# Altium schematic symbol library mcu_8bit_avr_mega64-128-165-325-645.SchLib: 24 symbols
Pins are listed as number, name and electrical type; pins without a type are passive.

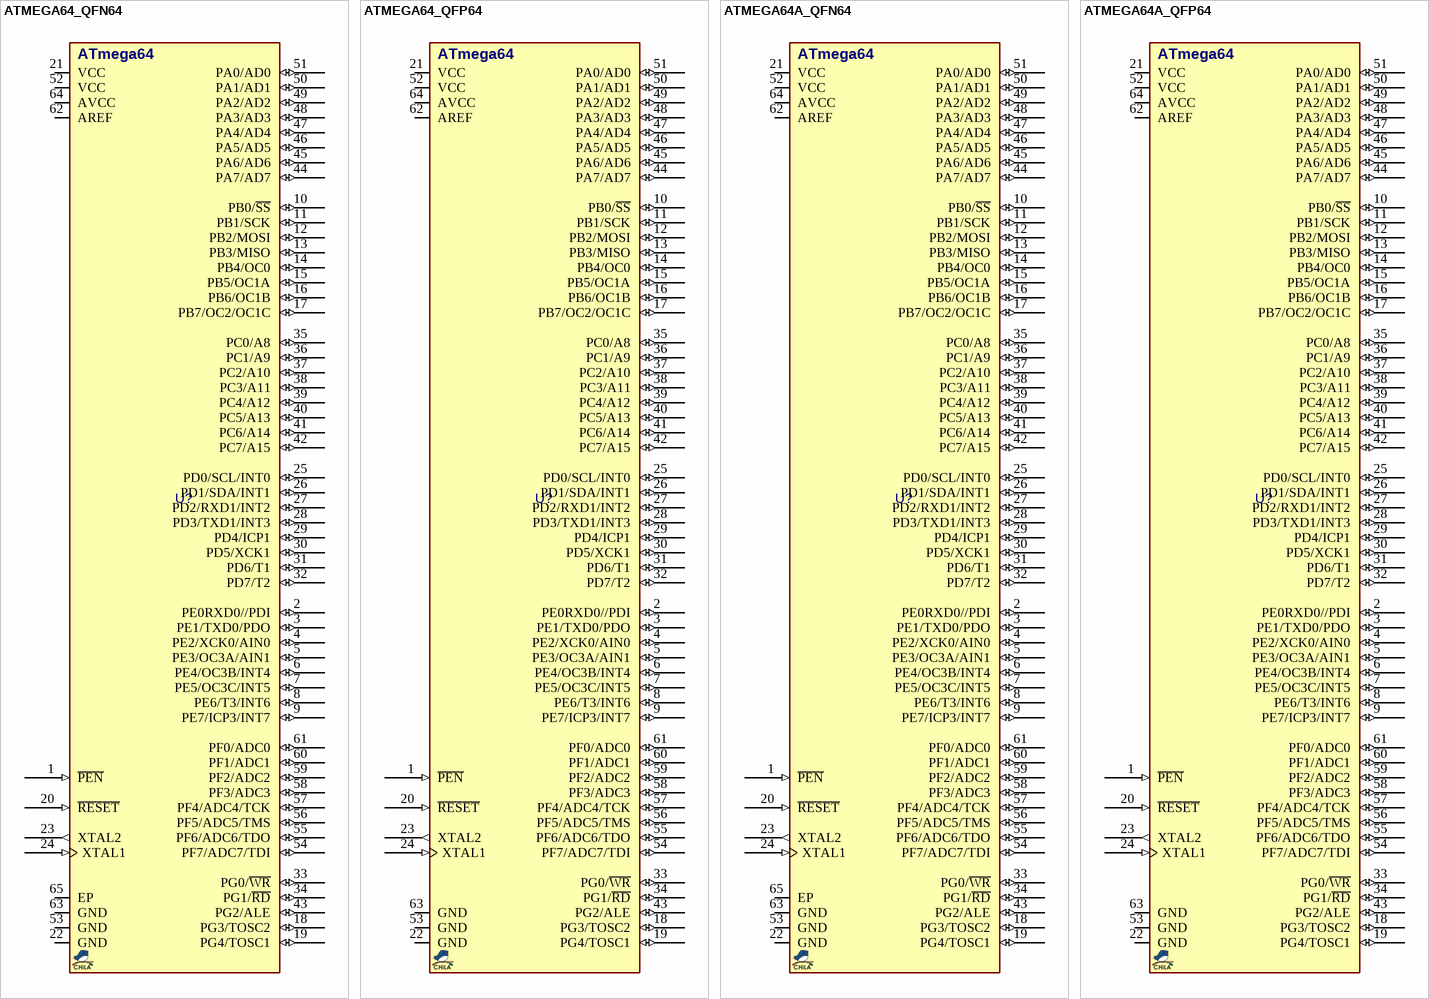
[diagram p0: symbols ATMEGA64_QFN64 to ATMEGA64A_QFP64]

## ATMEGA64_QFN64
designator U?, comment ATMEGA64  (value not drawn)
MCU, AVR, 8-Bit, 64KB, 4KB RAM, 16MHz; MANF_P#: ATMEGA64-16MU; DESC: 2KB EEPROM; MANF: ATMEL/MICROCHIP; PARAM2: 4.5~5.5V; PARAM: 64KB, 4KB RAM, 16MHz, -40~85°C; PRICE: 8$; VALUE: ATMEGA64
footprint QFN50_64T (LFCSP_VQ, MO-220-VMMD-4, MO-220-WNJR-5(JEDEC), RGC S-PQFP-N64 (TI), 9X9mm, 0.5mm)
pins: 1 ~{PEN} (in), 2 PE0RXD0//PDI (io), 3 PE1/TXD0/PDO (io), 4 PE2/XCK0/AIN0 (io), 5 PE3/OC3A/AIN1 (io), 6 PE4/OC3B/INT4 (io), 7 PE5/OC3C/INT5 (io), 8 PE6/T3/INT6 (io), 9 PE7/ICP3/INT7 (io), 10 PB0/~{SS} (io), 11 PB1/SCK (io), 12 PB2/MOSI (io), 13 PB3/MISO (io), 14 PB4/OC0 (io), 15 PB5/OC1A (io), 16 PB6/OC1B (io), 17 PB7/OC2/OC1C (io), 18 PG3/TOSC2 (io), 19 PG4/TOSC1 (io), 20 ~{RESET} (in), 21 VCC (power), 22 GND (power), 23 XTAL2 (out), 24 XTAL1 (in), 25 PD0/SCL/INT0 (io), 26 PD1/SDA/INT1 (io), 27 PD2/RXD1/INT2 (io), 28 PD3/TXD1/INT3 (io), 29 PD4/ICP1 (io), 30 PD5/XCK1 (io), 31 PD6/T1 (io), 32 PD7/T2 (io), 33 PG0/~{WR} (io), 34 PG1/~{RD} (io), 35 PC0/A8 (io), 36 PC1/A9 (io), 37 PC2/A10 (io), 38 PC3/A11 (io), 39 PC4/A12 (io), 40 PC5/A13 (io), 41 PC6/A14 (io), 42 PC7/A15 (io), 43 PG2/ALE (io), 44 PA7/AD7 (io), 45 PA6/AD6 (io), 46 PA5/AD5 (io), 47 PA4/AD4 (io), 48 PA3/AD3 (io), 49 PA2/AD2 (io), 50 PA1/AD1 (io), 51 PA0/AD0 (io), 52 VCC (power), 53 GND (power), 54 PF7/ADC7/TDI (io), 55 PF6/ADC6/TDO (io), 56 PF5/ADC5/TMS (io), 57 PF4/ADC4/TCK (io), 58 PF3/ADC3 (io), 59 PF2/ADC2 (io), 60 PF1/ADC1 (io), 61 PF0/ADC0 (io), 62 AREF (power), 63 GND (power), 64 AVCC (power), 65 EP (power)
text: ATmega64

## ATMEGA64_QFP64
designator U?, comment ATMEGA64  (value not drawn)
MCU, AVR, 8-Bit, 64KB, 4KB RAM, 16MHz; MANF_P#: ATMEGA64-16AU; DESC: 2KB EEPROM; MANF: ATMEL/MICROCHIP; PARAM2: 4.5~5.5V; PARAM: 64KB, 4KB RAM, 16MHz, -40~85°C; PRICE: 8$; VALUE: ATMEGA64
footprint QFG80_64 (TQFP64, N65 (Cypress), , MS-026 AEB(JEDEC), 64A (atmel), 14X14mm, 0.8mm)
pins: 1 ~{PEN} (in), 2 PE0RXD0//PDI (io), 3 PE1/TXD0/PDO (io), 4 PE2/XCK0/AIN0 (io), 5 PE3/OC3A/AIN1 (io), 6 PE4/OC3B/INT4 (io), 7 PE5/OC3C/INT5 (io), 8 PE6/T3/INT6 (io), 9 PE7/ICP3/INT7 (io), 10 PB0/~{SS} (io), 11 PB1/SCK (io), 12 PB2/MOSI (io), 13 PB3/MISO (io), 14 PB4/OC0 (io), 15 PB5/OC1A (io), 16 PB6/OC1B (io), 17 PB7/OC2/OC1C (io), 18 PG3/TOSC2 (io), 19 PG4/TOSC1 (io), 20 ~{RESET} (in), 21 VCC (power), 22 GND (power), 23 XTAL2 (out), 24 XTAL1 (in), 25 PD0/SCL/INT0 (io), 26 PD1/SDA/INT1 (io), 27 PD2/RXD1/INT2 (io), 28 PD3/TXD1/INT3 (io), 29 PD4/ICP1 (io), 30 PD5/XCK1 (io), 31 PD6/T1 (io), 32 PD7/T2 (io), 33 PG0/~{WR} (io), 34 PG1/~{RD} (io), 35 PC0/A8 (io), 36 PC1/A9 (io), 37 PC2/A10 (io), 38 PC3/A11 (io), 39 PC4/A12 (io), 40 PC5/A13 (io), 41 PC6/A14 (io), 42 PC7/A15 (io), 43 PG2/ALE (io), 44 PA7/AD7 (io), 45 PA6/AD6 (io), 46 PA5/AD5 (io), 47 PA4/AD4 (io), 48 PA3/AD3 (io), 49 PA2/AD2 (io), 50 PA1/AD1 (io), 51 PA0/AD0 (io), 52 VCC (power), 53 GND (power), 54 PF7/ADC7/TDI (io), 55 PF6/ADC6/TDO (io), 56 PF5/ADC5/TMS (io), 57 PF4/ADC4/TCK (io), 58 PF3/ADC3 (io), 59 PF2/ADC2 (io), 60 PF1/ADC1 (io), 61 PF0/ADC0 (io), 62 AREF (power), 63 GND (power), 64 AVCC (power)
text: ATmega64

## ATMEGA64A_QFN64
designator U?, comment ATMEGA64  (value not drawn)
MCU, AVR, 8-Bit, 64KB, 4KB RAM, 16MHz; MANF_P#: ATMEGA64A-MU; DESC: 2KB EEPROM; MANF: ATMEL/MICROCHIP; PARAM2: 2.7~5.5V; PARAM: 64KB, 4KB RAM, 16MHz, -40~85°C; PRICE: 4.5$; VALUE: ATMEGA64
footprint QFN50_64T (LFCSP_VQ, MO-220-VMMD-4, MO-220-WNJR-5(JEDEC), RGC S-PQFP-N64 (TI), 9X9mm, 0.5mm)
pins: 1 ~{PEN} (in), 2 PE0RXD0//PDI (io), 3 PE1/TXD0/PDO (io), 4 PE2/XCK0/AIN0 (io), 5 PE3/OC3A/AIN1 (io), 6 PE4/OC3B/INT4 (io), 7 PE5/OC3C/INT5 (io), 8 PE6/T3/INT6 (io), 9 PE7/ICP3/INT7 (io), 10 PB0/~{SS} (io), 11 PB1/SCK (io), 12 PB2/MOSI (io), 13 PB3/MISO (io), 14 PB4/OC0 (io), 15 PB5/OC1A (io), 16 PB6/OC1B (io), 17 PB7/OC2/OC1C (io), 18 PG3/TOSC2 (io), 19 PG4/TOSC1 (io), 20 ~{RESET} (in), 21 VCC (power), 22 GND (power), 23 XTAL2 (out), 24 XTAL1 (in), 25 PD0/SCL/INT0 (io), 26 PD1/SDA/INT1 (io), 27 PD2/RXD1/INT2 (io), 28 PD3/TXD1/INT3 (io), 29 PD4/ICP1 (io), 30 PD5/XCK1 (io), 31 PD6/T1 (io), 32 PD7/T2 (io), 33 PG0/~{WR} (io), 34 PG1/~{RD} (io), 35 PC0/A8 (io), 36 PC1/A9 (io), 37 PC2/A10 (io), 38 PC3/A11 (io), 39 PC4/A12 (io), 40 PC5/A13 (io), 41 PC6/A14 (io), 42 PC7/A15 (io), 43 PG2/ALE (io), 44 PA7/AD7 (io), 45 PA6/AD6 (io), 46 PA5/AD5 (io), 47 PA4/AD4 (io), 48 PA3/AD3 (io), 49 PA2/AD2 (io), 50 PA1/AD1 (io), 51 PA0/AD0 (io), 52 VCC (power), 53 GND (power), 54 PF7/ADC7/TDI (io), 55 PF6/ADC6/TDO (io), 56 PF5/ADC5/TMS (io), 57 PF4/ADC4/TCK (io), 58 PF3/ADC3 (io), 59 PF2/ADC2 (io), 60 PF1/ADC1 (io), 61 PF0/ADC0 (io), 62 AREF (power), 63 GND (power), 64 AVCC (power), 65 EP (power)
text: ATmega64

## ATMEGA64A_QFP64
designator U?, comment ATMEGA64  (value not drawn)
MCU, AVR, 8-Bit, 64KB, 4KB RAM, 16MHz; MANF_P#: ATMEGA64A-AU; DESC: 2KB EEPROM; MANF: ATMEL/MICROCHIP; PARAM2: 2.7~5.5V; PARAM: 64KB, 4KB RAM, 16MHz, -40~85°C; PRICE: 4.5$; VALUE: ATMEGA64
footprint QFG80_64 (TQFP64, N65 (Cypress), , MS-026 AEB(JEDEC), 64A (atmel), 14X14mm, 0.8mm)
pins: 1 ~{PEN} (in), 2 PE0RXD0//PDI (io), 3 PE1/TXD0/PDO (io), 4 PE2/XCK0/AIN0 (io), 5 PE3/OC3A/AIN1 (io), 6 PE4/OC3B/INT4 (io), 7 PE5/OC3C/INT5 (io), 8 PE6/T3/INT6 (io), 9 PE7/ICP3/INT7 (io), 10 PB0/~{SS} (io), 11 PB1/SCK (io), 12 PB2/MOSI (io), 13 PB3/MISO (io), 14 PB4/OC0 (io), 15 PB5/OC1A (io), 16 PB6/OC1B (io), 17 PB7/OC2/OC1C (io), 18 PG3/TOSC2 (io), 19 PG4/TOSC1 (io), 20 ~{RESET} (in), 21 VCC (power), 22 GND (power), 23 XTAL2 (out), 24 XTAL1 (in), 25 PD0/SCL/INT0 (io), 26 PD1/SDA/INT1 (io), 27 PD2/RXD1/INT2 (io), 28 PD3/TXD1/INT3 (io), 29 PD4/ICP1 (io), 30 PD5/XCK1 (io), 31 PD6/T1 (io), 32 PD7/T2 (io), 33 PG0/~{WR} (io), 34 PG1/~{RD} (io), 35 PC0/A8 (io), 36 PC1/A9 (io), 37 PC2/A10 (io), 38 PC3/A11 (io), 39 PC4/A12 (io), 40 PC5/A13 (io), 41 PC6/A14 (io), 42 PC7/A15 (io), 43 PG2/ALE (io), 44 PA7/AD7 (io), 45 PA6/AD6 (io), 46 PA5/AD5 (io), 47 PA4/AD4 (io), 48 PA3/AD3 (io), 49 PA2/AD2 (io), 50 PA1/AD1 (io), 51 PA0/AD0 (io), 52 VCC (power), 53 GND (power), 54 PF7/ADC7/TDI (io), 55 PF6/ADC6/TDO (io), 56 PF5/ADC5/TMS (io), 57 PF4/ADC4/TCK (io), 58 PF3/ADC3 (io), 59 PF2/ADC2 (io), 60 PF1/ADC1 (io), 61 PF0/ADC0 (io), 62 AREF (power), 63 GND (power), 64 AVCC (power)
text: ATmega64

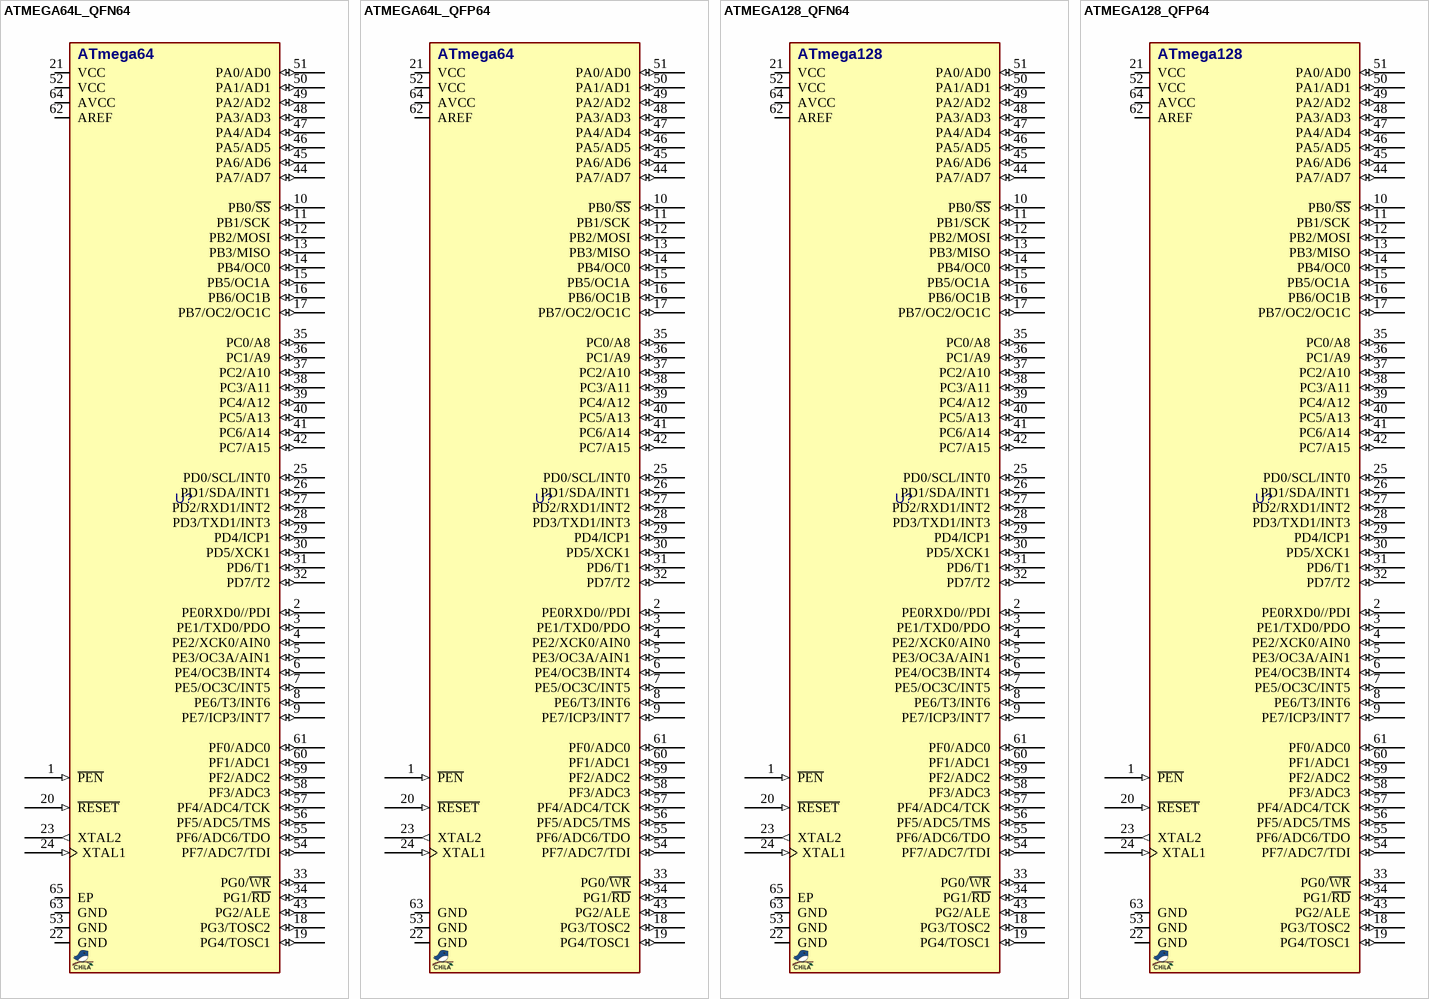
[diagram p1: symbols ATMEGA64L_QFN64 to ATMEGA128_QFP64]

## ATMEGA64L_QFN64
designator U?, comment ATMEGA64  (value not drawn)
MCU, AVR, 8-Bit, 64KB, 4KB RAM, 8MHz; MANF_P#: ATMEGA64L-8MU; DESC: 2KB EEPROM; MANF: ATMEL/MICROCHIP; PARAM2: 2.7~5.5V; PARAM: 64KB, 4KB RAM, 8MHz, -40~85°C; PRICE: 8$; VALUE: ATMEGA64
footprint QFN50_64T (LFCSP_VQ, MO-220-VMMD-4, MO-220-WNJR-5(JEDEC), RGC S-PQFP-N64 (TI), 9X9mm, 0.5mm)
pins: 1 ~{PEN} (in), 2 PE0RXD0//PDI (io), 3 PE1/TXD0/PDO (io), 4 PE2/XCK0/AIN0 (io), 5 PE3/OC3A/AIN1 (io), 6 PE4/OC3B/INT4 (io), 7 PE5/OC3C/INT5 (io), 8 PE6/T3/INT6 (io), 9 PE7/ICP3/INT7 (io), 10 PB0/~{SS} (io), 11 PB1/SCK (io), 12 PB2/MOSI (io), 13 PB3/MISO (io), 14 PB4/OC0 (io), 15 PB5/OC1A (io), 16 PB6/OC1B (io), 17 PB7/OC2/OC1C (io), 18 PG3/TOSC2 (io), 19 PG4/TOSC1 (io), 20 ~{RESET} (in), 21 VCC (power), 22 GND (power), 23 XTAL2 (out), 24 XTAL1 (in), 25 PD0/SCL/INT0 (io), 26 PD1/SDA/INT1 (io), 27 PD2/RXD1/INT2 (io), 28 PD3/TXD1/INT3 (io), 29 PD4/ICP1 (io), 30 PD5/XCK1 (io), 31 PD6/T1 (io), 32 PD7/T2 (io), 33 PG0/~{WR} (io), 34 PG1/~{RD} (io), 35 PC0/A8 (io), 36 PC1/A9 (io), 37 PC2/A10 (io), 38 PC3/A11 (io), 39 PC4/A12 (io), 40 PC5/A13 (io), 41 PC6/A14 (io), 42 PC7/A15 (io), 43 PG2/ALE (io), 44 PA7/AD7 (io), 45 PA6/AD6 (io), 46 PA5/AD5 (io), 47 PA4/AD4 (io), 48 PA3/AD3 (io), 49 PA2/AD2 (io), 50 PA1/AD1 (io), 51 PA0/AD0 (io), 52 VCC (power), 53 GND (power), 54 PF7/ADC7/TDI (io), 55 PF6/ADC6/TDO (io), 56 PF5/ADC5/TMS (io), 57 PF4/ADC4/TCK (io), 58 PF3/ADC3 (io), 59 PF2/ADC2 (io), 60 PF1/ADC1 (io), 61 PF0/ADC0 (io), 62 AREF (power), 63 GND (power), 64 AVCC (power), 65 EP (power)
text: ATmega64

## ATMEGA64L_QFP64
designator U?, comment ATMEGA64  (value not drawn)
MCU, AVR, 8-Bit, 64KB, 4KB RAM, 8MHz; MANF_P#: ATMEGA64L-8AU; DESC: 2KB EEPROM; MANF: ATMEL/MICROCHIP; PARAM2: 2.7~5.5V; PARAM: 64KB, 4KB RAM, 8MHz, -40~85°C; PRICE: 8$; VALUE: ATMEGA64
footprint QFG80_64 (TQFP64, N65 (Cypress), , MS-026 AEB(JEDEC), 64A (atmel), 14X14mm, 0.8mm)
pins: 1 ~{PEN} (in), 2 PE0RXD0//PDI (io), 3 PE1/TXD0/PDO (io), 4 PE2/XCK0/AIN0 (io), 5 PE3/OC3A/AIN1 (io), 6 PE4/OC3B/INT4 (io), 7 PE5/OC3C/INT5 (io), 8 PE6/T3/INT6 (io), 9 PE7/ICP3/INT7 (io), 10 PB0/~{SS} (io), 11 PB1/SCK (io), 12 PB2/MOSI (io), 13 PB3/MISO (io), 14 PB4/OC0 (io), 15 PB5/OC1A (io), 16 PB6/OC1B (io), 17 PB7/OC2/OC1C (io), 18 PG3/TOSC2 (io), 19 PG4/TOSC1 (io), 20 ~{RESET} (in), 21 VCC (power), 22 GND (power), 23 XTAL2 (out), 24 XTAL1 (in), 25 PD0/SCL/INT0 (io), 26 PD1/SDA/INT1 (io), 27 PD2/RXD1/INT2 (io), 28 PD3/TXD1/INT3 (io), 29 PD4/ICP1 (io), 30 PD5/XCK1 (io), 31 PD6/T1 (io), 32 PD7/T2 (io), 33 PG0/~{WR} (io), 34 PG1/~{RD} (io), 35 PC0/A8 (io), 36 PC1/A9 (io), 37 PC2/A10 (io), 38 PC3/A11 (io), 39 PC4/A12 (io), 40 PC5/A13 (io), 41 PC6/A14 (io), 42 PC7/A15 (io), 43 PG2/ALE (io), 44 PA7/AD7 (io), 45 PA6/AD6 (io), 46 PA5/AD5 (io), 47 PA4/AD4 (io), 48 PA3/AD3 (io), 49 PA2/AD2 (io), 50 PA1/AD1 (io), 51 PA0/AD0 (io), 52 VCC (power), 53 GND (power), 54 PF7/ADC7/TDI (io), 55 PF6/ADC6/TDO (io), 56 PF5/ADC5/TMS (io), 57 PF4/ADC4/TCK (io), 58 PF3/ADC3 (io), 59 PF2/ADC2 (io), 60 PF1/ADC1 (io), 61 PF0/ADC0 (io), 62 AREF (power), 63 GND (power), 64 AVCC (power)
text: ATmega64

## ATMEGA128_QFN64
designator U?, comment ATMEGA128  (value not drawn)
MCU, AVR, 8-Bit, 128KB, 4KB RAM, 16MHz; MANF_P#: ATMEGA128-16MU; DESC: 2KB EEPROM; MANF: ATMEL/MICROCHIP; PARAM2: 4.5~5.5V; PARAM: 128KB, 4KB RAM, 16MHz, -40~85°C; PRICE: 12$; VALUE: ATMEGA128
footprint QFN50_64T (LFCSP_VQ, MO-220-VMMD-4, MO-220-WNJR-5(JEDEC), RGC S-PQFP-N64 (TI), 9X9mm, 0.5mm)
pins: 1 ~{PEN} (in), 2 PE0RXD0//PDI (io), 3 PE1/TXD0/PDO (io), 4 PE2/XCK0/AIN0 (io), 5 PE3/OC3A/AIN1 (io), 6 PE4/OC3B/INT4 (io), 7 PE5/OC3C/INT5 (io), 8 PE6/T3/INT6 (io), 9 PE7/ICP3/INT7 (io), 10 PB0/~{SS} (io), 11 PB1/SCK (io), 12 PB2/MOSI (io), 13 PB3/MISO (io), 14 PB4/OC0 (io), 15 PB5/OC1A (io), 16 PB6/OC1B (io), 17 PB7/OC2/OC1C (io), 18 PG3/TOSC2 (io), 19 PG4/TOSC1 (io), 20 ~{RESET} (in), 21 VCC (power), 22 GND (power), 23 XTAL2 (out), 24 XTAL1 (in), 25 PD0/SCL/INT0 (io), 26 PD1/SDA/INT1 (io), 27 PD2/RXD1/INT2 (io), 28 PD3/TXD1/INT3 (io), 29 PD4/ICP1 (io), 30 PD5/XCK1 (io), 31 PD6/T1 (io), 32 PD7/T2 (io), 33 PG0/~{WR} (io), 34 PG1/~{RD} (io), 35 PC0/A8 (io), 36 PC1/A9 (io), 37 PC2/A10 (io), 38 PC3/A11 (io), 39 PC4/A12 (io), 40 PC5/A13 (io), 41 PC6/A14 (io), 42 PC7/A15 (io), 43 PG2/ALE (io), 44 PA7/AD7 (io), 45 PA6/AD6 (io), 46 PA5/AD5 (io), 47 PA4/AD4 (io), 48 PA3/AD3 (io), 49 PA2/AD2 (io), 50 PA1/AD1 (io), 51 PA0/AD0 (io), 52 VCC (power), 53 GND (power), 54 PF7/ADC7/TDI (io), 55 PF6/ADC6/TDO (io), 56 PF5/ADC5/TMS (io), 57 PF4/ADC4/TCK (io), 58 PF3/ADC3 (io), 59 PF2/ADC2 (io), 60 PF1/ADC1 (io), 61 PF0/ADC0 (io), 62 AREF (power), 63 GND (power), 64 AVCC (power), 65 EP (power)
text: ATmega128

## ATMEGA128_QFP64
designator U?, comment ATMEGA128  (value not drawn)
MCU, AVR, 8-Bit, 128KB, 4KB RAM, 16MHz; MANF_P#: ATMEGA128-16AU; DESC: 2KB EEPROM; MANF: ATMEL/MICROCHIP; PARAM2: 4.5~5.5V; PARAM: 64KB, 4KB RAM, 16MHz, -40~85°C; PRICE: 12$; VALUE: ATMEGA128
footprint QFG80_64 (TQFP64, N65 (Cypress), , MS-026 AEB(JEDEC), 64A (atmel), 14X14mm, 0.8mm)
pins: 1 ~{PEN} (in), 2 PE0RXD0//PDI (io), 3 PE1/TXD0/PDO (io), 4 PE2/XCK0/AIN0 (io), 5 PE3/OC3A/AIN1 (io), 6 PE4/OC3B/INT4 (io), 7 PE5/OC3C/INT5 (io), 8 PE6/T3/INT6 (io), 9 PE7/ICP3/INT7 (io), 10 PB0/~{SS} (io), 11 PB1/SCK (io), 12 PB2/MOSI (io), 13 PB3/MISO (io), 14 PB4/OC0 (io), 15 PB5/OC1A (io), 16 PB6/OC1B (io), 17 PB7/OC2/OC1C (io), 18 PG3/TOSC2 (io), 19 PG4/TOSC1 (io), 20 ~{RESET} (in), 21 VCC (power), 22 GND (power), 23 XTAL2 (out), 24 XTAL1 (in), 25 PD0/SCL/INT0 (io), 26 PD1/SDA/INT1 (io), 27 PD2/RXD1/INT2 (io), 28 PD3/TXD1/INT3 (io), 29 PD4/ICP1 (io), 30 PD5/XCK1 (io), 31 PD6/T1 (io), 32 PD7/T2 (io), 33 PG0/~{WR} (io), 34 PG1/~{RD} (io), 35 PC0/A8 (io), 36 PC1/A9 (io), 37 PC2/A10 (io), 38 PC3/A11 (io), 39 PC4/A12 (io), 40 PC5/A13 (io), 41 PC6/A14 (io), 42 PC7/A15 (io), 43 PG2/ALE (io), 44 PA7/AD7 (io), 45 PA6/AD6 (io), 46 PA5/AD5 (io), 47 PA4/AD4 (io), 48 PA3/AD3 (io), 49 PA2/AD2 (io), 50 PA1/AD1 (io), 51 PA0/AD0 (io), 52 VCC (power), 53 GND (power), 54 PF7/ADC7/TDI (io), 55 PF6/ADC6/TDO (io), 56 PF5/ADC5/TMS (io), 57 PF4/ADC4/TCK (io), 58 PF3/ADC3 (io), 59 PF2/ADC2 (io), 60 PF1/ADC1 (io), 61 PF0/ADC0 (io), 62 AREF (power), 63 GND (power), 64 AVCC (power)
text: ATmega128

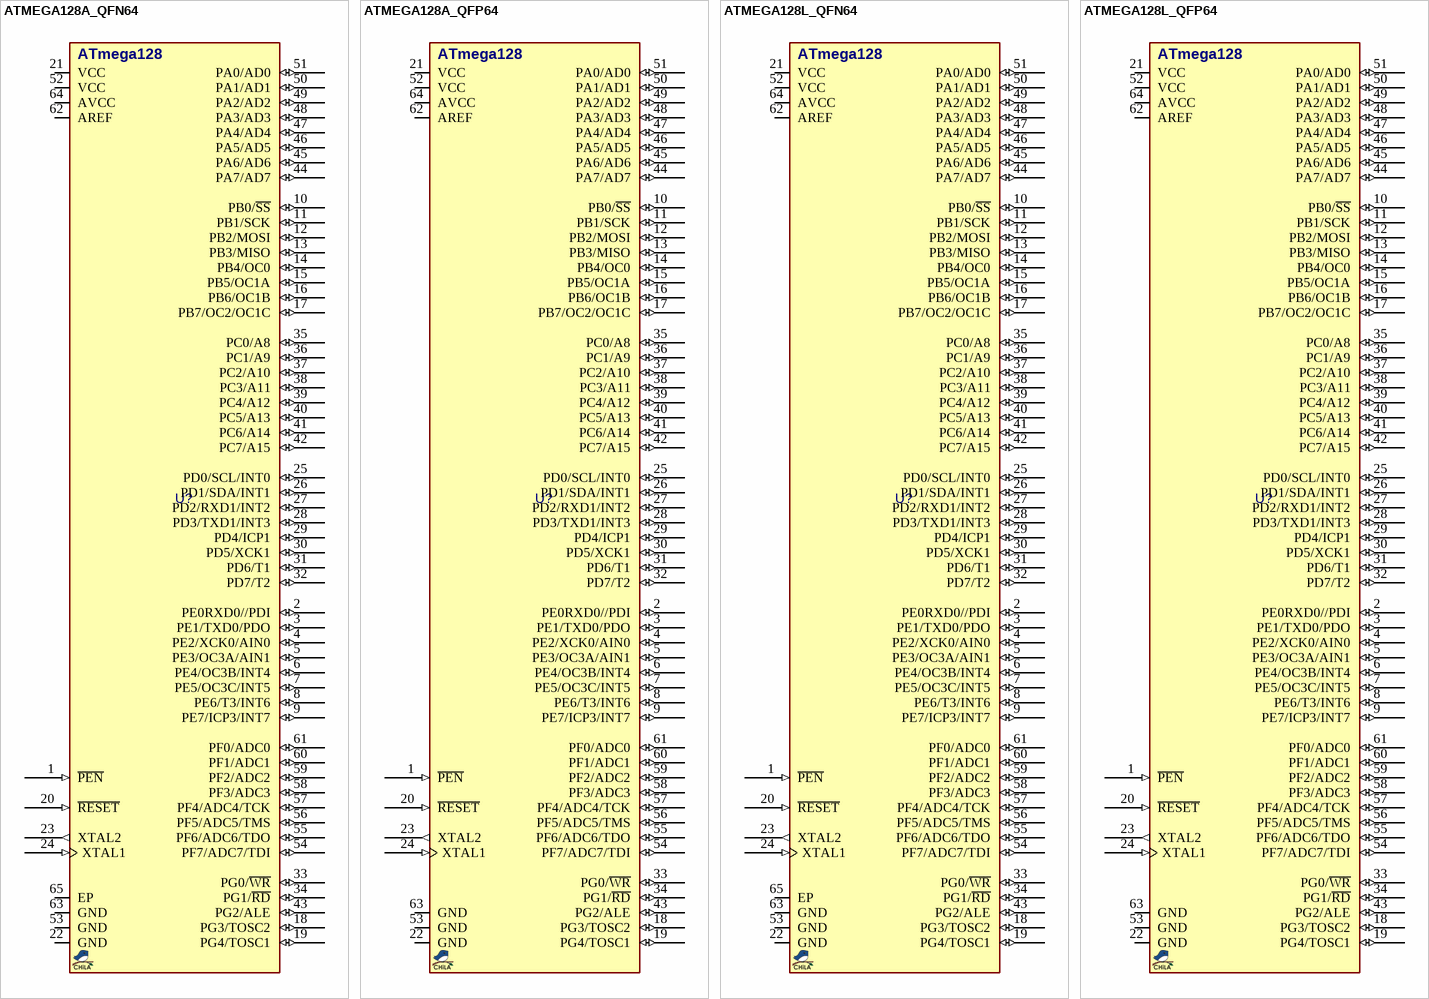
[diagram p2: symbols ATMEGA128A_QFN64 to ATMEGA128L_QFP64]

## ATMEGA128A_QFN64
designator U?, comment ATMEGA128  (value not drawn)
MCU, AVR, 8-Bit, 128KB, 4KB RAM, 16MHz; MANF_P#: ATMEGA128A-MU; DESC: 2KB EEPROM; MANF: ATMEL/MICROCHIP; PARAM2: 2.7~5.5V; PARAM: 128KB, 4KB RAM, 16MHz, -40~85°C; PRICE: 5.5$; VALUE: ATMEGA128
footprint QFN50_64T (LFCSP_VQ, MO-220-VMMD-4, MO-220-WNJR-5(JEDEC), RGC S-PQFP-N64 (TI), 9X9mm, 0.5mm)
pins: 1 ~{PEN} (in), 2 PE0RXD0//PDI (io), 3 PE1/TXD0/PDO (io), 4 PE2/XCK0/AIN0 (io), 5 PE3/OC3A/AIN1 (io), 6 PE4/OC3B/INT4 (io), 7 PE5/OC3C/INT5 (io), 8 PE6/T3/INT6 (io), 9 PE7/ICP3/INT7 (io), 10 PB0/~{SS} (io), 11 PB1/SCK (io), 12 PB2/MOSI (io), 13 PB3/MISO (io), 14 PB4/OC0 (io), 15 PB5/OC1A (io), 16 PB6/OC1B (io), 17 PB7/OC2/OC1C (io), 18 PG3/TOSC2 (io), 19 PG4/TOSC1 (io), 20 ~{RESET} (in), 21 VCC (power), 22 GND (power), 23 XTAL2 (out), 24 XTAL1 (in), 25 PD0/SCL/INT0 (io), 26 PD1/SDA/INT1 (io), 27 PD2/RXD1/INT2 (io), 28 PD3/TXD1/INT3 (io), 29 PD4/ICP1 (io), 30 PD5/XCK1 (io), 31 PD6/T1 (io), 32 PD7/T2 (io), 33 PG0/~{WR} (io), 34 PG1/~{RD} (io), 35 PC0/A8 (io), 36 PC1/A9 (io), 37 PC2/A10 (io), 38 PC3/A11 (io), 39 PC4/A12 (io), 40 PC5/A13 (io), 41 PC6/A14 (io), 42 PC7/A15 (io), 43 PG2/ALE (io), 44 PA7/AD7 (io), 45 PA6/AD6 (io), 46 PA5/AD5 (io), 47 PA4/AD4 (io), 48 PA3/AD3 (io), 49 PA2/AD2 (io), 50 PA1/AD1 (io), 51 PA0/AD0 (io), 52 VCC (power), 53 GND (power), 54 PF7/ADC7/TDI (io), 55 PF6/ADC6/TDO (io), 56 PF5/ADC5/TMS (io), 57 PF4/ADC4/TCK (io), 58 PF3/ADC3 (io), 59 PF2/ADC2 (io), 60 PF1/ADC1 (io), 61 PF0/ADC0 (io), 62 AREF (power), 63 GND (power), 64 AVCC (power), 65 EP (power)
text: ATmega128

## ATMEGA128A_QFP64
designator U?, comment ATMEGA128  (value not drawn)
MCU, AVR, 8-Bit, 128KB, 4KB RAM, 16MHz; MANF_P#: ATMEGA128A-AU; DESC: 2KB EEPROM; MANF: ATMEL/MICROCHIP; PARAM2: 2.7~5.5V; PARAM: 64KB, 4KB RAM, 16MHz, -40~85°C; PRICE: 5.5$; VALUE: ATMEGA128
footprint QFG80_64 (TQFP64, N65 (Cypress), , MS-026 AEB(JEDEC), 64A (atmel), 14X14mm, 0.8mm)
pins: 1 ~{PEN} (in), 2 PE0RXD0//PDI (io), 3 PE1/TXD0/PDO (io), 4 PE2/XCK0/AIN0 (io), 5 PE3/OC3A/AIN1 (io), 6 PE4/OC3B/INT4 (io), 7 PE5/OC3C/INT5 (io), 8 PE6/T3/INT6 (io), 9 PE7/ICP3/INT7 (io), 10 PB0/~{SS} (io), 11 PB1/SCK (io), 12 PB2/MOSI (io), 13 PB3/MISO (io), 14 PB4/OC0 (io), 15 PB5/OC1A (io), 16 PB6/OC1B (io), 17 PB7/OC2/OC1C (io), 18 PG3/TOSC2 (io), 19 PG4/TOSC1 (io), 20 ~{RESET} (in), 21 VCC (power), 22 GND (power), 23 XTAL2 (out), 24 XTAL1 (in), 25 PD0/SCL/INT0 (io), 26 PD1/SDA/INT1 (io), 27 PD2/RXD1/INT2 (io), 28 PD3/TXD1/INT3 (io), 29 PD4/ICP1 (io), 30 PD5/XCK1 (io), 31 PD6/T1 (io), 32 PD7/T2 (io), 33 PG0/~{WR} (io), 34 PG1/~{RD} (io), 35 PC0/A8 (io), 36 PC1/A9 (io), 37 PC2/A10 (io), 38 PC3/A11 (io), 39 PC4/A12 (io), 40 PC5/A13 (io), 41 PC6/A14 (io), 42 PC7/A15 (io), 43 PG2/ALE (io), 44 PA7/AD7 (io), 45 PA6/AD6 (io), 46 PA5/AD5 (io), 47 PA4/AD4 (io), 48 PA3/AD3 (io), 49 PA2/AD2 (io), 50 PA1/AD1 (io), 51 PA0/AD0 (io), 52 VCC (power), 53 GND (power), 54 PF7/ADC7/TDI (io), 55 PF6/ADC6/TDO (io), 56 PF5/ADC5/TMS (io), 57 PF4/ADC4/TCK (io), 58 PF3/ADC3 (io), 59 PF2/ADC2 (io), 60 PF1/ADC1 (io), 61 PF0/ADC0 (io), 62 AREF (power), 63 GND (power), 64 AVCC (power)
text: ATmega128

## ATMEGA128L_QFN64
designator U?, comment ATMEGA128  (value not drawn)
MCU, AVR, 8-Bit, 128KB, 4KB RAM, 8MHz; MANF_P#: ATMEGA128L-8MU; DESC: 2KB EEPROM; MANF: ATMEL/MICROCHIP; PARAM2: 2.7~5.5V; PARAM: 128KB, 4KB RAM, 8MHz, -40~85°C; PRICE: 12$; VALUE: ATMEGA128
footprint QFN50_64T (LFCSP_VQ, MO-220-VMMD-4, MO-220-WNJR-5(JEDEC), RGC S-PQFP-N64 (TI), 9X9mm, 0.5mm)
pins: 1 ~{PEN} (in), 2 PE0RXD0//PDI (io), 3 PE1/TXD0/PDO (io), 4 PE2/XCK0/AIN0 (io), 5 PE3/OC3A/AIN1 (io), 6 PE4/OC3B/INT4 (io), 7 PE5/OC3C/INT5 (io), 8 PE6/T3/INT6 (io), 9 PE7/ICP3/INT7 (io), 10 PB0/~{SS} (io), 11 PB1/SCK (io), 12 PB2/MOSI (io), 13 PB3/MISO (io), 14 PB4/OC0 (io), 15 PB5/OC1A (io), 16 PB6/OC1B (io), 17 PB7/OC2/OC1C (io), 18 PG3/TOSC2 (io), 19 PG4/TOSC1 (io), 20 ~{RESET} (in), 21 VCC (power), 22 GND (power), 23 XTAL2 (out), 24 XTAL1 (in), 25 PD0/SCL/INT0 (io), 26 PD1/SDA/INT1 (io), 27 PD2/RXD1/INT2 (io), 28 PD3/TXD1/INT3 (io), 29 PD4/ICP1 (io), 30 PD5/XCK1 (io), 31 PD6/T1 (io), 32 PD7/T2 (io), 33 PG0/~{WR} (io), 34 PG1/~{RD} (io), 35 PC0/A8 (io), 36 PC1/A9 (io), 37 PC2/A10 (io), 38 PC3/A11 (io), 39 PC4/A12 (io), 40 PC5/A13 (io), 41 PC6/A14 (io), 42 PC7/A15 (io), 43 PG2/ALE (io), 44 PA7/AD7 (io), 45 PA6/AD6 (io), 46 PA5/AD5 (io), 47 PA4/AD4 (io), 48 PA3/AD3 (io), 49 PA2/AD2 (io), 50 PA1/AD1 (io), 51 PA0/AD0 (io), 52 VCC (power), 53 GND (power), 54 PF7/ADC7/TDI (io), 55 PF6/ADC6/TDO (io), 56 PF5/ADC5/TMS (io), 57 PF4/ADC4/TCK (io), 58 PF3/ADC3 (io), 59 PF2/ADC2 (io), 60 PF1/ADC1 (io), 61 PF0/ADC0 (io), 62 AREF (power), 63 GND (power), 64 AVCC (power), 65 EP (power)
text: ATmega128

## ATMEGA128L_QFP64
designator U?, comment ATMEGA128  (value not drawn)
MCU, AVR, 8-Bit, 128KB, 4KB RAM, 8MHz; MANF_P#: ATMEGA128L-8AU; DESC: 2KB EEPROM; MANF: ATMEL/MICROCHIP; PARAM2: 2.7~5.5V; PARAM: 128KB, 4KB RAM, 8MHz, -40~85°C; PRICE: 12$; VALUE: ATMEGA128
footprint QFG80_64 (TQFP64, N65 (Cypress), , MS-026 AEB(JEDEC), 64A (atmel), 14X14mm, 0.8mm)
pins: 1 ~{PEN} (in), 2 PE0RXD0//PDI (io), 3 PE1/TXD0/PDO (io), 4 PE2/XCK0/AIN0 (io), 5 PE3/OC3A/AIN1 (io), 6 PE4/OC3B/INT4 (io), 7 PE5/OC3C/INT5 (io), 8 PE6/T3/INT6 (io), 9 PE7/ICP3/INT7 (io), 10 PB0/~{SS} (io), 11 PB1/SCK (io), 12 PB2/MOSI (io), 13 PB3/MISO (io), 14 PB4/OC0 (io), 15 PB5/OC1A (io), 16 PB6/OC1B (io), 17 PB7/OC2/OC1C (io), 18 PG3/TOSC2 (io), 19 PG4/TOSC1 (io), 20 ~{RESET} (in), 21 VCC (power), 22 GND (power), 23 XTAL2 (out), 24 XTAL1 (in), 25 PD0/SCL/INT0 (io), 26 PD1/SDA/INT1 (io), 27 PD2/RXD1/INT2 (io), 28 PD3/TXD1/INT3 (io), 29 PD4/ICP1 (io), 30 PD5/XCK1 (io), 31 PD6/T1 (io), 32 PD7/T2 (io), 33 PG0/~{WR} (io), 34 PG1/~{RD} (io), 35 PC0/A8 (io), 36 PC1/A9 (io), 37 PC2/A10 (io), 38 PC3/A11 (io), 39 PC4/A12 (io), 40 PC5/A13 (io), 41 PC6/A14 (io), 42 PC7/A15 (io), 43 PG2/ALE (io), 44 PA7/AD7 (io), 45 PA6/AD6 (io), 46 PA5/AD5 (io), 47 PA4/AD4 (io), 48 PA3/AD3 (io), 49 PA2/AD2 (io), 50 PA1/AD1 (io), 51 PA0/AD0 (io), 52 VCC (power), 53 GND (power), 54 PF7/ADC7/TDI (io), 55 PF6/ADC6/TDO (io), 56 PF5/ADC5/TMS (io), 57 PF4/ADC4/TCK (io), 58 PF3/ADC3 (io), 59 PF2/ADC2 (io), 60 PF1/ADC1 (io), 61 PF0/ADC0 (io), 62 AREF (power), 63 GND (power), 64 AVCC (power)
text: ATmega128

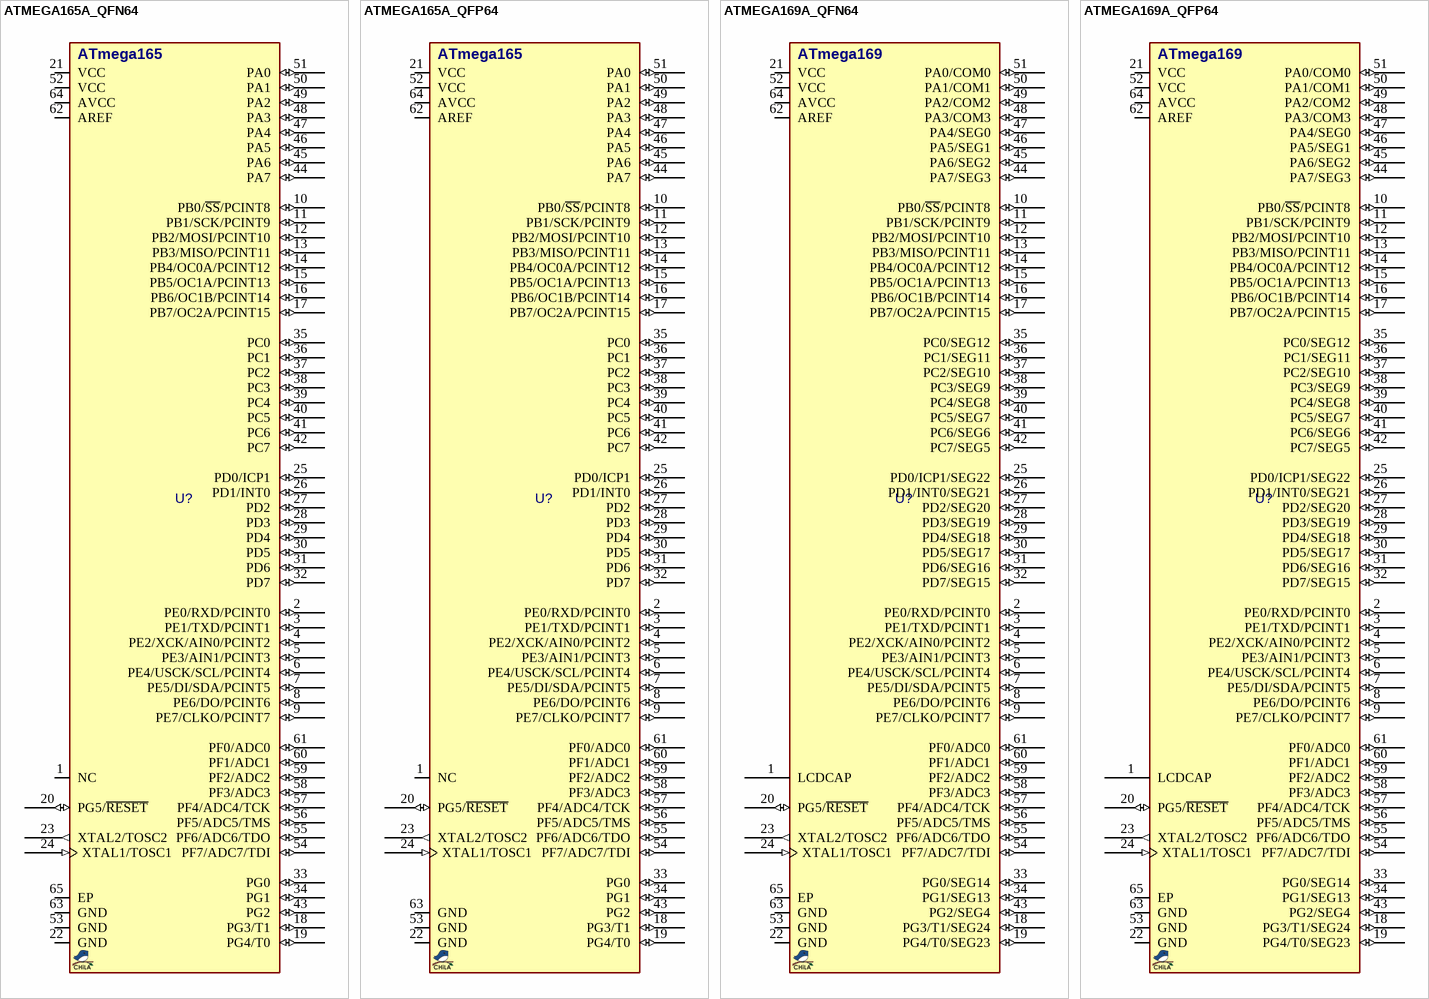
[diagram p3: symbols ATMEGA165A_QFN64 to ATMEGA169A_QFP64]

## ATMEGA165A_QFN64
designator U?, comment ATMEGA165  (value not drawn)
MCU, AVR, 8-Bit, 16KB, 1KB RAM, 20MHz; MANF_P#: ATMEGA165A-MU; DESC: 512B EEPROM; MANF: ATMEL/MICROCHIP; PARAM2: 1.8~5.5V; PARAM: 16KB, 1KB RAM, 20MHz, -40~85°C; PRICE: 3$; VALUE: ATMEGA165
footprint QFN50_64T (LFCSP_VQ, MO-220-VMMD-4, MO-220-WNJR-5(JEDEC), RGC S-PQFP-N64 (TI), 9X9mm, 0.5mm)
pins: 1 NC, 2 PE0/RXD/PCINT0 (io), 3 PE1/TXD/PCINT1 (io), 4 PE2/XCK/AIN0/PCINT2 (io), 5 PE3/AIN1/PCINT3 (io), 6 PE4/USCK/SCL/PCINT4 (io), 7 PE5/DI/SDA/PCINT5 (io), 8 PE6/DO/PCINT6 (io), 9 PE7/CLKO/PCINT7 (io), 10 PB0/~{SS}/PCINT8 (io), 11 PB1/SCK/PCINT9 (io), 12 PB2/MOSI/PCINT10 (io), 13 PB3/MISO/PCINT11 (io), 14 PB4/OC0A/PCINT12 (io), 15 PB5/OC1A/PCINT13 (io), 16 PB6/OC1B/PCINT14 (io), 17 PB7/OC2A/PCINT15 (io), 18 PG3/T1 (io), 19 PG4/T0 (io), 20 PG5/~{RESET} (io), 21 VCC (power), 22 GND (power), 23 XTAL2/TOSC2 (out), 24 XTAL1/TOSC1 (in), 25 PD0/ICP1 (io), 26 PD1/INT0 (io), 27 PD2 (io), 28 PD3 (io), 29 PD4 (io), 30 PD5 (io), 31 PD6 (io), 32 PD7 (io), 33 PG0 (io), 34 PG1 (io), 35 PC0 (io), 36 PC1 (io), 37 PC2 (io), 38 PC3 (io), 39 PC4 (io), 40 PC5 (io), 41 PC6 (io), 42 PC7 (io), 43 PG2 (io), 44 PA7 (io), 45 PA6 (io), 46 PA5 (io), 47 PA4 (io), 48 PA3 (io), 49 PA2 (io), 50 PA1 (io), 51 PA0 (io), 52 VCC (power), 53 GND (power), 54 PF7/ADC7/TDI (io), 55 PF6/ADC6/TDO (io), 56 PF5/ADC5/TMS (io), 57 PF4/ADC4/TCK (io), 58 PF3/ADC3 (io), 59 PF2/ADC2 (io), 60 PF1/ADC1 (io), 61 PF0/ADC0 (io), 62 AREF (power), 63 GND (power), 64 AVCC (power), 65 EP (power)
text: ATmega165

## ATMEGA165A_QFP64
designator U?, comment ATMEGA165  (value not drawn)
MCU, AVR, 8-Bit, 16KB, 1KB RAM, 20MHz; MANF_P#: ATMEGA165A-AU; DESC: 512B EEPROM; MANF: ATMEL/MICROCHIP; PARAM2: 1.8~5.5V; PARAM: 16KB, 1KB RAM, 20MHz, -40~85°C; PRICE: 3$; VALUE: ATMEGA165
footprint QFG80_64 (TQFP64, N65 (Cypress), , MS-026 AEB(JEDEC), 64A (atmel), 14X14mm, 0.8mm)
pins: 1 NC, 2 PE0/RXD/PCINT0 (io), 3 PE1/TXD/PCINT1 (io), 4 PE2/XCK/AIN0/PCINT2 (io), 5 PE3/AIN1/PCINT3 (io), 6 PE4/USCK/SCL/PCINT4 (io), 7 PE5/DI/SDA/PCINT5 (io), 8 PE6/DO/PCINT6 (io), 9 PE7/CLKO/PCINT7 (io), 10 PB0/~{SS}/PCINT8 (io), 11 PB1/SCK/PCINT9 (io), 12 PB2/MOSI/PCINT10 (io), 13 PB3/MISO/PCINT11 (io), 14 PB4/OC0A/PCINT12 (io), 15 PB5/OC1A/PCINT13 (io), 16 PB6/OC1B/PCINT14 (io), 17 PB7/OC2A/PCINT15 (io), 18 PG3/T1 (io), 19 PG4/T0 (io), 20 PG5/~{RESET} (io), 21 VCC (power), 22 GND (power), 23 XTAL2/TOSC2 (out), 24 XTAL1/TOSC1 (in), 25 PD0/ICP1 (io), 26 PD1/INT0 (io), 27 PD2 (io), 28 PD3 (io), 29 PD4 (io), 30 PD5 (io), 31 PD6 (io), 32 PD7 (io), 33 PG0 (io), 34 PG1 (io), 35 PC0 (io), 36 PC1 (io), 37 PC2 (io), 38 PC3 (io), 39 PC4 (io), 40 PC5 (io), 41 PC6 (io), 42 PC7 (io), 43 PG2 (io), 44 PA7 (io), 45 PA6 (io), 46 PA5 (io), 47 PA4 (io), 48 PA3 (io), 49 PA2 (io), 50 PA1 (io), 51 PA0 (io), 52 VCC (power), 53 GND (power), 54 PF7/ADC7/TDI (io), 55 PF6/ADC6/TDO (io), 56 PF5/ADC5/TMS (io), 57 PF4/ADC4/TCK (io), 58 PF3/ADC3 (io), 59 PF2/ADC2 (io), 60 PF1/ADC1 (io), 61 PF0/ADC0 (io), 62 AREF (power), 63 GND (power), 64 AVCC (power)
text: ATmega165

## ATMEGA169A_QFN64
designator U?, comment ATMEGA169  (value not drawn)
MCU, AVR, 8-Bit, 16KB, 1KB RAM, 16MHz, LCD Driver; MANF_P#: ATMEGA169A-MU; DESC: 512B EEPROM; MANF: ATMEL/MICROCHIP; PARAM2: 1.8~5.5V; PARAM: 16KB, 1KB RAM, 16MHz, -40~85°C; PRICE: 3$; VALUE: ATMEGA169
footprint QFN50_64T (LFCSP_VQ, MO-220-VMMD-4, MO-220-WNJR-5(JEDEC), RGC S-PQFP-N64 (TI), 9X9mm, 0.5mm)
pins: 1 LCDCAP, 2 PE0/RXD/PCINT0 (io), 3 PE1/TXD/PCINT1 (io), 4 PE2/XCK/AIN0/PCINT2 (io), 5 PE3/AIN1/PCINT3 (io), 6 PE4/USCK/SCL/PCINT4 (io), 7 PE5/DI/SDA/PCINT5 (io), 8 PE6/DO/PCINT6 (io), 9 PE7/CLKO/PCINT7 (io), 10 PB0/~{SS}/PCINT8 (io), 11 PB1/SCK/PCINT9 (io), 12 PB2/MOSI/PCINT10 (io), 13 PB3/MISO/PCINT11 (io), 14 PB4/OC0A/PCINT12 (io), 15 PB5/OC1A/PCINT13 (io), 16 PB6/OC1B/PCINT14 (io), 17 PB7/OC2A/PCINT15 (io), 18 PG3/T1/SEG24 (io), 19 PG4/T0/SEG23 (io), 20 PG5/~{RESET} (io), 21 VCC (power), 22 GND (power), 23 XTAL2/TOSC2 (out), 24 XTAL1/TOSC1 (in), 25 PD0/ICP1/SEG22 (io), 26 PD1/INT0/SEG21 (io), 27 PD2/SEG20 (io), 28 PD3/SEG19 (io), 29 PD4/SEG18 (io), 30 PD5/SEG17 (io), 31 PD6/SEG16 (io), 32 PD7/SEG15 (io), 33 PG0/SEG14 (io), 34 PG1/SEG13 (io), 35 PC0/SEG12 (io), 36 PC1/SEG11 (io), 37 PC2/SEG10 (io), 38 PC3/SEG9 (io), 39 PC4/SEG8 (io), 40 PC5/SEG7 (io), 41 PC6/SEG6 (io), 42 PC7/SEG5 (io), 43 PG2/SEG4 (io), 44 PA7/SEG3 (io), 45 PA6/SEG2 (io), 46 PA5/SEG1 (io), 47 PA4/SEG0 (io), 48 PA3/COM3 (io), 49 PA2/COM2 (io), 50 PA1/COM1 (io), 51 PA0/COM0 (io), 52 VCC (power), 53 GND (power), 54 PF7/ADC7/TDI (io), 55 PF6/ADC6/TDO (io), 56 PF5/ADC5/TMS (io), 57 PF4/ADC4/TCK (io), 58 PF3/ADC3 (io), 59 PF2/ADC2 (io), 60 PF1/ADC1 (io), 61 PF0/ADC0 (io), 62 AREF (power), 63 GND (power), 64 AVCC (power), 65 EP (power)
text: ATmega169

## ATMEGA169A_QFP64
designator U?, comment ATMEGA169  (value not drawn)
MCU, AVR, 8-Bit, 16KB, 1KB RAM, 16MHz, LCD Driver; MANF_P#: ATMEGA169A-AU; DESC: 512B EEPROM; MANF: ATMEL/MICROCHIP; PARAM2: 1.8~5.5V; PARAM: 16KB, 1KB RAM, 16MHz, -40~85°C; PRICE: 3$; VALUE: ATMEGA169
footprint QFG80_64 (TQFP64, N65 (Cypress), , MS-026 AEB(JEDEC), 64A (atmel), 14X14mm, 0.8mm)
pins: 1 LCDCAP, 2 PE0/RXD/PCINT0 (io), 3 PE1/TXD/PCINT1 (io), 4 PE2/XCK/AIN0/PCINT2 (io), 5 PE3/AIN1/PCINT3 (io), 6 PE4/USCK/SCL/PCINT4 (io), 7 PE5/DI/SDA/PCINT5 (io), 8 PE6/DO/PCINT6 (io), 9 PE7/CLKO/PCINT7 (io), 10 PB0/~{SS}/PCINT8 (io), 11 PB1/SCK/PCINT9 (io), 12 PB2/MOSI/PCINT10 (io), 13 PB3/MISO/PCINT11 (io), 14 PB4/OC0A/PCINT12 (io), 15 PB5/OC1A/PCINT13 (io), 16 PB6/OC1B/PCINT14 (io), 17 PB7/OC2A/PCINT15 (io), 18 PG3/T1/SEG24 (io), 19 PG4/T0/SEG23 (io), 20 PG5/~{RESET} (io), 21 VCC (power), 22 GND (power), 23 XTAL2/TOSC2 (out), 24 XTAL1/TOSC1 (in), 25 PD0/ICP1/SEG22 (io), 26 PD1/INT0/SEG21 (io), 27 PD2/SEG20 (io), 28 PD3/SEG19 (io), 29 PD4/SEG18 (io), 30 PD5/SEG17 (io), 31 PD6/SEG16 (io), 32 PD7/SEG15 (io), 33 PG0/SEG14 (io), 34 PG1/SEG13 (io), 35 PC0/SEG12 (io), 36 PC1/SEG11 (io), 37 PC2/SEG10 (io), 38 PC3/SEG9 (io), 39 PC4/SEG8 (io), 40 PC5/SEG7 (io), 41 PC6/SEG6 (io), 42 PC7/SEG5 (io), 43 PG2/SEG4 (io), 44 PA7/SEG3 (io), 45 PA6/SEG2 (io), 46 PA5/SEG1 (io), 47 PA4/SEG0 (io), 48 PA3/COM3 (io), 49 PA2/COM2 (io), 50 PA1/COM1 (io), 51 PA0/COM0 (io), 52 VCC (power), 53 GND (power), 54 PF7/ADC7/TDI (io), 55 PF6/ADC6/TDO (io), 56 PF5/ADC5/TMS (io), 57 PF4/ADC4/TCK (io), 58 PF3/ADC3 (io), 59 PF2/ADC2 (io), 60 PF1/ADC1 (io), 61 PF0/ADC0 (io), 62 AREF (power), 63 GND (power), 64 AVCC (power), 65 EP (power)
text: ATmega169

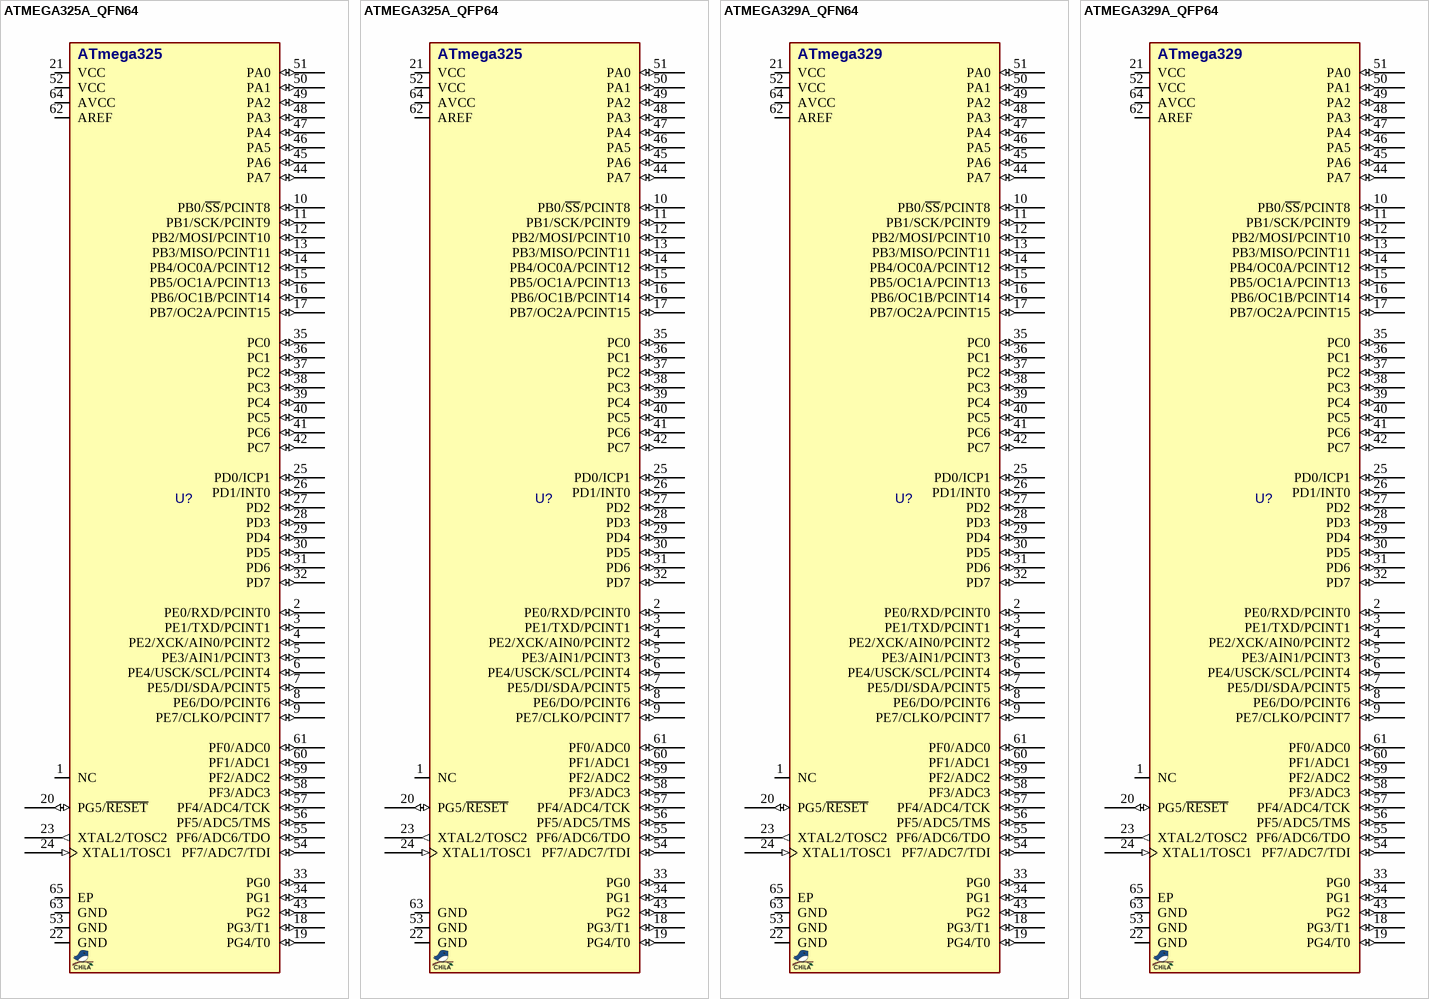
[diagram p4: symbols ATMEGA325A_QFN64 to ATMEGA329A_QFP64]

## ATMEGA325A_QFN64
designator U?, comment ATMEGA325  (value not drawn)
MCU, AVR, 8-Bit, 32KB, 2KB RAM, 20MHz; MANF_P#: ATMEGA325A-MU; DESC: 1KB EEPROM; MANF: ATMEL/MICROCHIP; PARAM2: 1.8~5.5V; PARAM: 32KB, 2KB RAM, 20MHz, -40~85°C; PRICE: 4$; VALUE: ATMEGA325
footprint QFN50_64T (LFCSP_VQ, MO-220-VMMD-4, MO-220-WNJR-5(JEDEC), RGC S-PQFP-N64 (TI), 9X9mm, 0.5mm)
pins: 1 NC, 2 PE0/RXD/PCINT0 (io), 3 PE1/TXD/PCINT1 (io), 4 PE2/XCK/AIN0/PCINT2 (io), 5 PE3/AIN1/PCINT3 (io), 6 PE4/USCK/SCL/PCINT4 (io), 7 PE5/DI/SDA/PCINT5 (io), 8 PE6/DO/PCINT6 (io), 9 PE7/CLKO/PCINT7 (io), 10 PB0/~{SS}/PCINT8 (io), 11 PB1/SCK/PCINT9 (io), 12 PB2/MOSI/PCINT10 (io), 13 PB3/MISO/PCINT11 (io), 14 PB4/OC0A/PCINT12 (io), 15 PB5/OC1A/PCINT13 (io), 16 PB6/OC1B/PCINT14 (io), 17 PB7/OC2A/PCINT15 (io), 18 PG3/T1 (io), 19 PG4/T0 (io), 20 PG5/~{RESET} (io), 21 VCC (power), 22 GND (power), 23 XTAL2/TOSC2 (out), 24 XTAL1/TOSC1 (in), 25 PD0/ICP1 (io), 26 PD1/INT0 (io), 27 PD2 (io), 28 PD3 (io), 29 PD4 (io), 30 PD5 (io), 31 PD6 (io), 32 PD7 (io), 33 PG0 (io), 34 PG1 (io), 35 PC0 (io), 36 PC1 (io), 37 PC2 (io), 38 PC3 (io), 39 PC4 (io), 40 PC5 (io), 41 PC6 (io), 42 PC7 (io), 43 PG2 (io), 44 PA7 (io), 45 PA6 (io), 46 PA5 (io), 47 PA4 (io), 48 PA3 (io), 49 PA2 (io), 50 PA1 (io), 51 PA0 (io), 52 VCC (power), 53 GND (power), 54 PF7/ADC7/TDI (io), 55 PF6/ADC6/TDO (io), 56 PF5/ADC5/TMS (io), 57 PF4/ADC4/TCK (io), 58 PF3/ADC3 (io), 59 PF2/ADC2 (io), 60 PF1/ADC1 (io), 61 PF0/ADC0 (io), 62 AREF (power), 63 GND (power), 64 AVCC (power), 65 EP (power)
text: ATmega325

## ATMEGA325A_QFP64
designator U?, comment ATMEGA325  (value not drawn)
MCU, AVR, 8-Bit, 32KB, 2KB RAM, 20MHz; MANF_P#: ATMEGA325A-AU; DESC: 1KB EEPROM; MANF: ATMEL/MICROCHIP; PARAM2: 1.8~5.5V; PARAM: 32KB, 2KB RAM, 20MHz, -40~85°C; PRICE: 4$; VALUE: ATMEGA325
footprint QFG80_64 (TQFP64, N65 (Cypress), , MS-026 AEB(JEDEC), 64A (atmel), 14X14mm, 0.8mm)
pins: 1 NC, 2 PE0/RXD/PCINT0 (io), 3 PE1/TXD/PCINT1 (io), 4 PE2/XCK/AIN0/PCINT2 (io), 5 PE3/AIN1/PCINT3 (io), 6 PE4/USCK/SCL/PCINT4 (io), 7 PE5/DI/SDA/PCINT5 (io), 8 PE6/DO/PCINT6 (io), 9 PE7/CLKO/PCINT7 (io), 10 PB0/~{SS}/PCINT8 (io), 11 PB1/SCK/PCINT9 (io), 12 PB2/MOSI/PCINT10 (io), 13 PB3/MISO/PCINT11 (io), 14 PB4/OC0A/PCINT12 (io), 15 PB5/OC1A/PCINT13 (io), 16 PB6/OC1B/PCINT14 (io), 17 PB7/OC2A/PCINT15 (io), 18 PG3/T1 (io), 19 PG4/T0 (io), 20 PG5/~{RESET} (io), 21 VCC (power), 22 GND (power), 23 XTAL2/TOSC2 (out), 24 XTAL1/TOSC1 (in), 25 PD0/ICP1 (io), 26 PD1/INT0 (io), 27 PD2 (io), 28 PD3 (io), 29 PD4 (io), 30 PD5 (io), 31 PD6 (io), 32 PD7 (io), 33 PG0 (io), 34 PG1 (io), 35 PC0 (io), 36 PC1 (io), 37 PC2 (io), 38 PC3 (io), 39 PC4 (io), 40 PC5 (io), 41 PC6 (io), 42 PC7 (io), 43 PG2 (io), 44 PA7 (io), 45 PA6 (io), 46 PA5 (io), 47 PA4 (io), 48 PA3 (io), 49 PA2 (io), 50 PA1 (io), 51 PA0 (io), 52 VCC (power), 53 GND (power), 54 PF7/ADC7/TDI (io), 55 PF6/ADC6/TDO (io), 56 PF5/ADC5/TMS (io), 57 PF4/ADC4/TCK (io), 58 PF3/ADC3 (io), 59 PF2/ADC2 (io), 60 PF1/ADC1 (io), 61 PF0/ADC0 (io), 62 AREF (power), 63 GND (power), 64 AVCC (power)
text: ATmega325

## ATMEGA329A_QFN64
designator U?, comment ATMEGA329  (value not drawn)
MCU, AVR, 8-Bit, 32KB, 2KB RAM, 20MHz, LCD Driver; MANF_P#: ATMEGA329A-MU; DESC: 1KB EEPROM; MANF: ATMEL/MICROCHIP; PARAM2: 1.8~5.5V; PARAM: 32KB, 2KB RAM, 20MHz, -40~85°C; PRICE: 4$; VALUE: ATMEGA329
footprint QFN50_64T (LFCSP_VQ, MO-220-VMMD-4, MO-220-WNJR-5(JEDEC), RGC S-PQFP-N64 (TI), 9X9mm, 0.5mm)
pins: 1 NC, 2 PE0/RXD/PCINT0 (io), 3 PE1/TXD/PCINT1 (io), 4 PE2/XCK/AIN0/PCINT2 (io), 5 PE3/AIN1/PCINT3 (io), 6 PE4/USCK/SCL/PCINT4 (io), 7 PE5/DI/SDA/PCINT5 (io), 8 PE6/DO/PCINT6 (io), 9 PE7/CLKO/PCINT7 (io), 10 PB0/~{SS}/PCINT8 (io), 11 PB1/SCK/PCINT9 (io), 12 PB2/MOSI/PCINT10 (io), 13 PB3/MISO/PCINT11 (io), 14 PB4/OC0A/PCINT12 (io), 15 PB5/OC1A/PCINT13 (io), 16 PB6/OC1B/PCINT14 (io), 17 PB7/OC2A/PCINT15 (io), 18 PG3/T1 (io), 19 PG4/T0 (io), 20 PG5/~{RESET} (io), 21 VCC (power), 22 GND (power), 23 XTAL2/TOSC2 (out), 24 XTAL1/TOSC1 (in), 25 PD0/ICP1 (io), 26 PD1/INT0 (io), 27 PD2 (io), 28 PD3 (io), 29 PD4 (io), 30 PD5 (io), 31 PD6 (io), 32 PD7 (io), 33 PG0 (io), 34 PG1 (io), 35 PC0 (io), 36 PC1 (io), 37 PC2 (io), 38 PC3 (io), 39 PC4 (io), 40 PC5 (io), 41 PC6 (io), 42 PC7 (io), 43 PG2 (io), 44 PA7 (io), 45 PA6 (io), 46 PA5 (io), 47 PA4 (io), 48 PA3 (io), 49 PA2 (io), 50 PA1 (io), 51 PA0 (io), 52 VCC (power), 53 GND (power), 54 PF7/ADC7/TDI (io), 55 PF6/ADC6/TDO (io), 56 PF5/ADC5/TMS (io), 57 PF4/ADC4/TCK (io), 58 PF3/ADC3 (io), 59 PF2/ADC2 (io), 60 PF1/ADC1 (io), 61 PF0/ADC0 (io), 62 AREF (power), 63 GND (power), 64 AVCC (power), 65 EP (power)
text: ATmega329

## ATMEGA329A_QFP64
designator U?, comment ATMEGA329  (value not drawn)
MCU, AVR, 8-Bit, 32KB, 2KB RAM, 20MHz, LCD Driver; MANF_P#: ATMEGA329A-MU; DESC: 1KB EEPROM; MANF: ATMEL/MICROCHIP; PARAM2: 1.8~5.5V; PARAM: 32KB, 2KB RAM, 20MHz, -40~85°C; PRICE: 4$; VALUE: ATMEGA329
footprint QFG80_64 (TQFP64, N65 (Cypress), , MS-026 AEB(JEDEC), 64A (atmel), 14X14mm, 0.8mm)
pins: 1 NC, 2 PE0/RXD/PCINT0 (io), 3 PE1/TXD/PCINT1 (io), 4 PE2/XCK/AIN0/PCINT2 (io), 5 PE3/AIN1/PCINT3 (io), 6 PE4/USCK/SCL/PCINT4 (io), 7 PE5/DI/SDA/PCINT5 (io), 8 PE6/DO/PCINT6 (io), 9 PE7/CLKO/PCINT7 (io), 10 PB0/~{SS}/PCINT8 (io), 11 PB1/SCK/PCINT9 (io), 12 PB2/MOSI/PCINT10 (io), 13 PB3/MISO/PCINT11 (io), 14 PB4/OC0A/PCINT12 (io), 15 PB5/OC1A/PCINT13 (io), 16 PB6/OC1B/PCINT14 (io), 17 PB7/OC2A/PCINT15 (io), 18 PG3/T1 (io), 19 PG4/T0 (io), 20 PG5/~{RESET} (io), 21 VCC (power), 22 GND (power), 23 XTAL2/TOSC2 (out), 24 XTAL1/TOSC1 (in), 25 PD0/ICP1 (io), 26 PD1/INT0 (io), 27 PD2 (io), 28 PD3 (io), 29 PD4 (io), 30 PD5 (io), 31 PD6 (io), 32 PD7 (io), 33 PG0 (io), 34 PG1 (io), 35 PC0 (io), 36 PC1 (io), 37 PC2 (io), 38 PC3 (io), 39 PC4 (io), 40 PC5 (io), 41 PC6 (io), 42 PC7 (io), 43 PG2 (io), 44 PA7 (io), 45 PA6 (io), 46 PA5 (io), 47 PA4 (io), 48 PA3 (io), 49 PA2 (io), 50 PA1 (io), 51 PA0 (io), 52 VCC (power), 53 GND (power), 54 PF7/ADC7/TDI (io), 55 PF6/ADC6/TDO (io), 56 PF5/ADC5/TMS (io), 57 PF4/ADC4/TCK (io), 58 PF3/ADC3 (io), 59 PF2/ADC2 (io), 60 PF1/ADC1 (io), 61 PF0/ADC0 (io), 62 AREF (power), 63 GND (power), 64 AVCC (power), 65 EP (power)
text: ATmega329

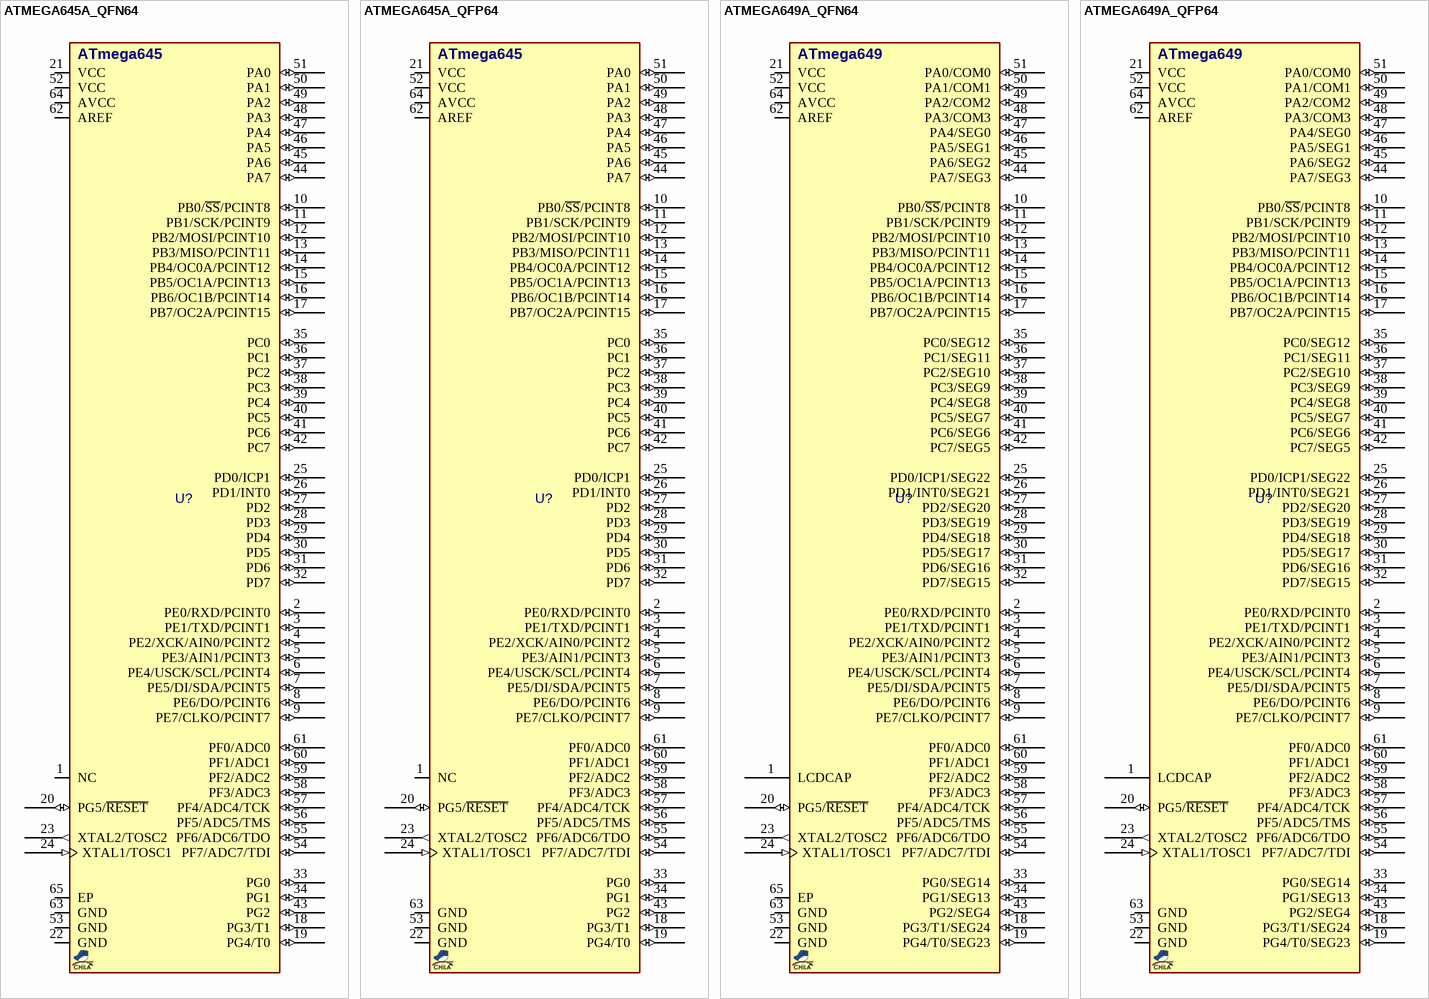
[diagram p5: symbols ATMEGA645A_QFN64 to ATMEGA649A_QFP64]

## ATMEGA645A_QFN64
designator U?, comment ATMEGA645  (value not drawn)
MCU, AVR, 8-Bit, 64KB, 4KB RAM, 20MHz; MANF_P#: ATMEGA645A-MU; DESC: 2KB EEPROM; MANF: ATMEL/MICROCHIP; PARAM2: 1.8~5.5V; PARAM: 64KB, 4KB RAM, 20MHz, -40~85°C; PRICE: 5$; VALUE: ATMEGA645
footprint QFN50_64T (LFCSP_VQ, MO-220-VMMD-4, MO-220-WNJR-5(JEDEC), RGC S-PQFP-N64 (TI), 9X9mm, 0.5mm)
pins: 1 NC, 2 PE0/RXD/PCINT0 (io), 3 PE1/TXD/PCINT1 (io), 4 PE2/XCK/AIN0/PCINT2 (io), 5 PE3/AIN1/PCINT3 (io), 6 PE4/USCK/SCL/PCINT4 (io), 7 PE5/DI/SDA/PCINT5 (io), 8 PE6/DO/PCINT6 (io), 9 PE7/CLKO/PCINT7 (io), 10 PB0/~{SS}/PCINT8 (io), 11 PB1/SCK/PCINT9 (io), 12 PB2/MOSI/PCINT10 (io), 13 PB3/MISO/PCINT11 (io), 14 PB4/OC0A/PCINT12 (io), 15 PB5/OC1A/PCINT13 (io), 16 PB6/OC1B/PCINT14 (io), 17 PB7/OC2A/PCINT15 (io), 18 PG3/T1 (io), 19 PG4/T0 (io), 20 PG5/~{RESET} (io), 21 VCC (power), 22 GND (power), 23 XTAL2/TOSC2 (out), 24 XTAL1/TOSC1 (in), 25 PD0/ICP1 (io), 26 PD1/INT0 (io), 27 PD2 (io), 28 PD3 (io), 29 PD4 (io), 30 PD5 (io), 31 PD6 (io), 32 PD7 (io), 33 PG0 (io), 34 PG1 (io), 35 PC0 (io), 36 PC1 (io), 37 PC2 (io), 38 PC3 (io), 39 PC4 (io), 40 PC5 (io), 41 PC6 (io), 42 PC7 (io), 43 PG2 (io), 44 PA7 (io), 45 PA6 (io), 46 PA5 (io), 47 PA4 (io), 48 PA3 (io), 49 PA2 (io), 50 PA1 (io), 51 PA0 (io), 52 VCC (power), 53 GND (power), 54 PF7/ADC7/TDI (io), 55 PF6/ADC6/TDO (io), 56 PF5/ADC5/TMS (io), 57 PF4/ADC4/TCK (io), 58 PF3/ADC3 (io), 59 PF2/ADC2 (io), 60 PF1/ADC1 (io), 61 PF0/ADC0 (io), 62 AREF (power), 63 GND (power), 64 AVCC (power), 65 EP (power)
text: ATmega645

## ATMEGA645A_QFP64
designator U?, comment ATMEGA645  (value not drawn)
MCU, AVR, 8-Bit, 64KB, 4KB RAM, 20MHz; MANF_P#: ATMEGA645A-AU; DESC: 2KB EEPROM; MANF: ATMEL/MICROCHIP; PARAM2: 1.8~5.5V; PARAM: 64KB, 4KB RAM, 20MHz, -40~85°C; PRICE: 5$; VALUE: ATMEGA645
footprint QFG80_64 (TQFP64, N65 (Cypress), , MS-026 AEB(JEDEC), 64A (atmel), 14X14mm, 0.8mm)
pins: 1 NC, 2 PE0/RXD/PCINT0 (io), 3 PE1/TXD/PCINT1 (io), 4 PE2/XCK/AIN0/PCINT2 (io), 5 PE3/AIN1/PCINT3 (io), 6 PE4/USCK/SCL/PCINT4 (io), 7 PE5/DI/SDA/PCINT5 (io), 8 PE6/DO/PCINT6 (io), 9 PE7/CLKO/PCINT7 (io), 10 PB0/~{SS}/PCINT8 (io), 11 PB1/SCK/PCINT9 (io), 12 PB2/MOSI/PCINT10 (io), 13 PB3/MISO/PCINT11 (io), 14 PB4/OC0A/PCINT12 (io), 15 PB5/OC1A/PCINT13 (io), 16 PB6/OC1B/PCINT14 (io), 17 PB7/OC2A/PCINT15 (io), 18 PG3/T1 (io), 19 PG4/T0 (io), 20 PG5/~{RESET} (io), 21 VCC (power), 22 GND (power), 23 XTAL2/TOSC2 (out), 24 XTAL1/TOSC1 (in), 25 PD0/ICP1 (io), 26 PD1/INT0 (io), 27 PD2 (io), 28 PD3 (io), 29 PD4 (io), 30 PD5 (io), 31 PD6 (io), 32 PD7 (io), 33 PG0 (io), 34 PG1 (io), 35 PC0 (io), 36 PC1 (io), 37 PC2 (io), 38 PC3 (io), 39 PC4 (io), 40 PC5 (io), 41 PC6 (io), 42 PC7 (io), 43 PG2 (io), 44 PA7 (io), 45 PA6 (io), 46 PA5 (io), 47 PA4 (io), 48 PA3 (io), 49 PA2 (io), 50 PA1 (io), 51 PA0 (io), 52 VCC (power), 53 GND (power), 54 PF7/ADC7/TDI (io), 55 PF6/ADC6/TDO (io), 56 PF5/ADC5/TMS (io), 57 PF4/ADC4/TCK (io), 58 PF3/ADC3 (io), 59 PF2/ADC2 (io), 60 PF1/ADC1 (io), 61 PF0/ADC0 (io), 62 AREF (power), 63 GND (power), 64 AVCC (power)
text: ATmega645

## ATMEGA649A_QFN64
designator U?, comment ATMEGA649  (value not drawn)
MCU, AVR, 8-Bit, 64KB, 4KB RAM, 16MHz, LCD driver; MANF_P#: ATMEGA649A-MU; DESC: 2KB EEPROM; MANF: ATMEL/MICROCHIP; PARAM2: 1.8~5.5V; PARAM: 64KB, 4KB RAM, 16MHz, -40~85°C; PRICE: 5$; VALUE: ATMEGA649
footprint QFN50_64T (LFCSP_VQ, MO-220-VMMD-4, MO-220-WNJR-5(JEDEC), RGC S-PQFP-N64 (TI), 9X9mm, 0.5mm)
pins: 1 LCDCAP, 2 PE0/RXD/PCINT0 (io), 3 PE1/TXD/PCINT1 (io), 4 PE2/XCK/AIN0/PCINT2 (io), 5 PE3/AIN1/PCINT3 (io), 6 PE4/USCK/SCL/PCINT4 (io), 7 PE5/DI/SDA/PCINT5 (io), 8 PE6/DO/PCINT6 (io), 9 PE7/CLKO/PCINT7 (io), 10 PB0/~{SS}/PCINT8 (io), 11 PB1/SCK/PCINT9 (io), 12 PB2/MOSI/PCINT10 (io), 13 PB3/MISO/PCINT11 (io), 14 PB4/OC0A/PCINT12 (io), 15 PB5/OC1A/PCINT13 (io), 16 PB6/OC1B/PCINT14 (io), 17 PB7/OC2A/PCINT15 (io), 18 PG3/T1/SEG24 (io), 19 PG4/T0/SEG23 (io), 20 PG5/~{RESET} (io), 21 VCC (power), 22 GND (power), 23 XTAL2/TOSC2 (out), 24 XTAL1/TOSC1 (in), 25 PD0/ICP1/SEG22 (io), 26 PD1/INT0/SEG21 (io), 27 PD2/SEG20 (io), 28 PD3/SEG19 (io), 29 PD4/SEG18 (io), 30 PD5/SEG17 (io), 31 PD6/SEG16 (io), 32 PD7/SEG15 (io), 33 PG0/SEG14 (io), 34 PG1/SEG13 (io), 35 PC0/SEG12 (io), 36 PC1/SEG11 (io), 37 PC2/SEG10 (io), 38 PC3/SEG9 (io), 39 PC4/SEG8 (io), 40 PC5/SEG7 (io), 41 PC6/SEG6 (io), 42 PC7/SEG5 (io), 43 PG2/SEG4 (io), 44 PA7/SEG3 (io), 45 PA6/SEG2 (io), 46 PA5/SEG1 (io), 47 PA4/SEG0 (io), 48 PA3/COM3 (io), 49 PA2/COM2 (io), 50 PA1/COM1 (io), 51 PA0/COM0 (io), 52 VCC (power), 53 GND (power), 54 PF7/ADC7/TDI (io), 55 PF6/ADC6/TDO (io), 56 PF5/ADC5/TMS (io), 57 PF4/ADC4/TCK (io), 58 PF3/ADC3 (io), 59 PF2/ADC2 (io), 60 PF1/ADC1 (io), 61 PF0/ADC0 (io), 62 AREF (power), 63 GND (power), 64 AVCC (power), 65 EP (power)
text: ATmega649

## ATMEGA649A_QFP64
designator U?, comment ATMEGA649  (value not drawn)
MCU, AVR, 8-Bit, 64KB, 4KB RAM, 16MHz, LCD driver; MANF_P#: ATMEGA649A-AU; DESC: 2KB EEPROM; MANF: ATMEL/MICROCHIP; PARAM2: 1.8~5.5V; PARAM: 64KB, 4KB RAM, 16MHz, -40~85°C; PRICE: 5$; VALUE: ATMEGA649
footprint QFG80_64 (TQFP64, N65 (Cypress), , MS-026 AEB(JEDEC), 64A (atmel), 14X14mm, 0.8mm)
pins: 1 LCDCAP, 2 PE0/RXD/PCINT0 (io), 3 PE1/TXD/PCINT1 (io), 4 PE2/XCK/AIN0/PCINT2 (io), 5 PE3/AIN1/PCINT3 (io), 6 PE4/USCK/SCL/PCINT4 (io), 7 PE5/DI/SDA/PCINT5 (io), 8 PE6/DO/PCINT6 (io), 9 PE7/CLKO/PCINT7 (io), 10 PB0/~{SS}/PCINT8 (io), 11 PB1/SCK/PCINT9 (io), 12 PB2/MOSI/PCINT10 (io), 13 PB3/MISO/PCINT11 (io), 14 PB4/OC0A/PCINT12 (io), 15 PB5/OC1A/PCINT13 (io), 16 PB6/OC1B/PCINT14 (io), 17 PB7/OC2A/PCINT15 (io), 18 PG3/T1/SEG24 (io), 19 PG4/T0/SEG23 (io), 20 PG5/~{RESET} (io), 21 VCC (power), 22 GND (power), 23 XTAL2/TOSC2 (out), 24 XTAL1/TOSC1 (in), 25 PD0/ICP1/SEG22 (io), 26 PD1/INT0/SEG21 (io), 27 PD2/SEG20 (io), 28 PD3/SEG19 (io), 29 PD4/SEG18 (io), 30 PD5/SEG17 (io), 31 PD6/SEG16 (io), 32 PD7/SEG15 (io), 33 PG0/SEG14 (io), 34 PG1/SEG13 (io), 35 PC0/SEG12 (io), 36 PC1/SEG11 (io), 37 PC2/SEG10 (io), 38 PC3/SEG9 (io), 39 PC4/SEG8 (io), 40 PC5/SEG7 (io), 41 PC6/SEG6 (io), 42 PC7/SEG5 (io), 43 PG2/SEG4 (io), 44 PA7/SEG3 (io), 45 PA6/SEG2 (io), 46 PA5/SEG1 (io), 47 PA4/SEG0 (io), 48 PA3/COM3 (io), 49 PA2/COM2 (io), 50 PA1/COM1 (io), 51 PA0/COM0 (io), 52 VCC (power), 53 GND (power), 54 PF7/ADC7/TDI (io), 55 PF6/ADC6/TDO (io), 56 PF5/ADC5/TMS (io), 57 PF4/ADC4/TCK (io), 58 PF3/ADC3 (io), 59 PF2/ADC2 (io), 60 PF1/ADC1 (io), 61 PF0/ADC0 (io), 62 AREF (power), 63 GND (power), 64 AVCC (power)
text: ATmega649